# Altium schematic symbol library 1.SchLib: 51 symbols
Pins are listed as number, name and electrical type; pins without a type are passive.

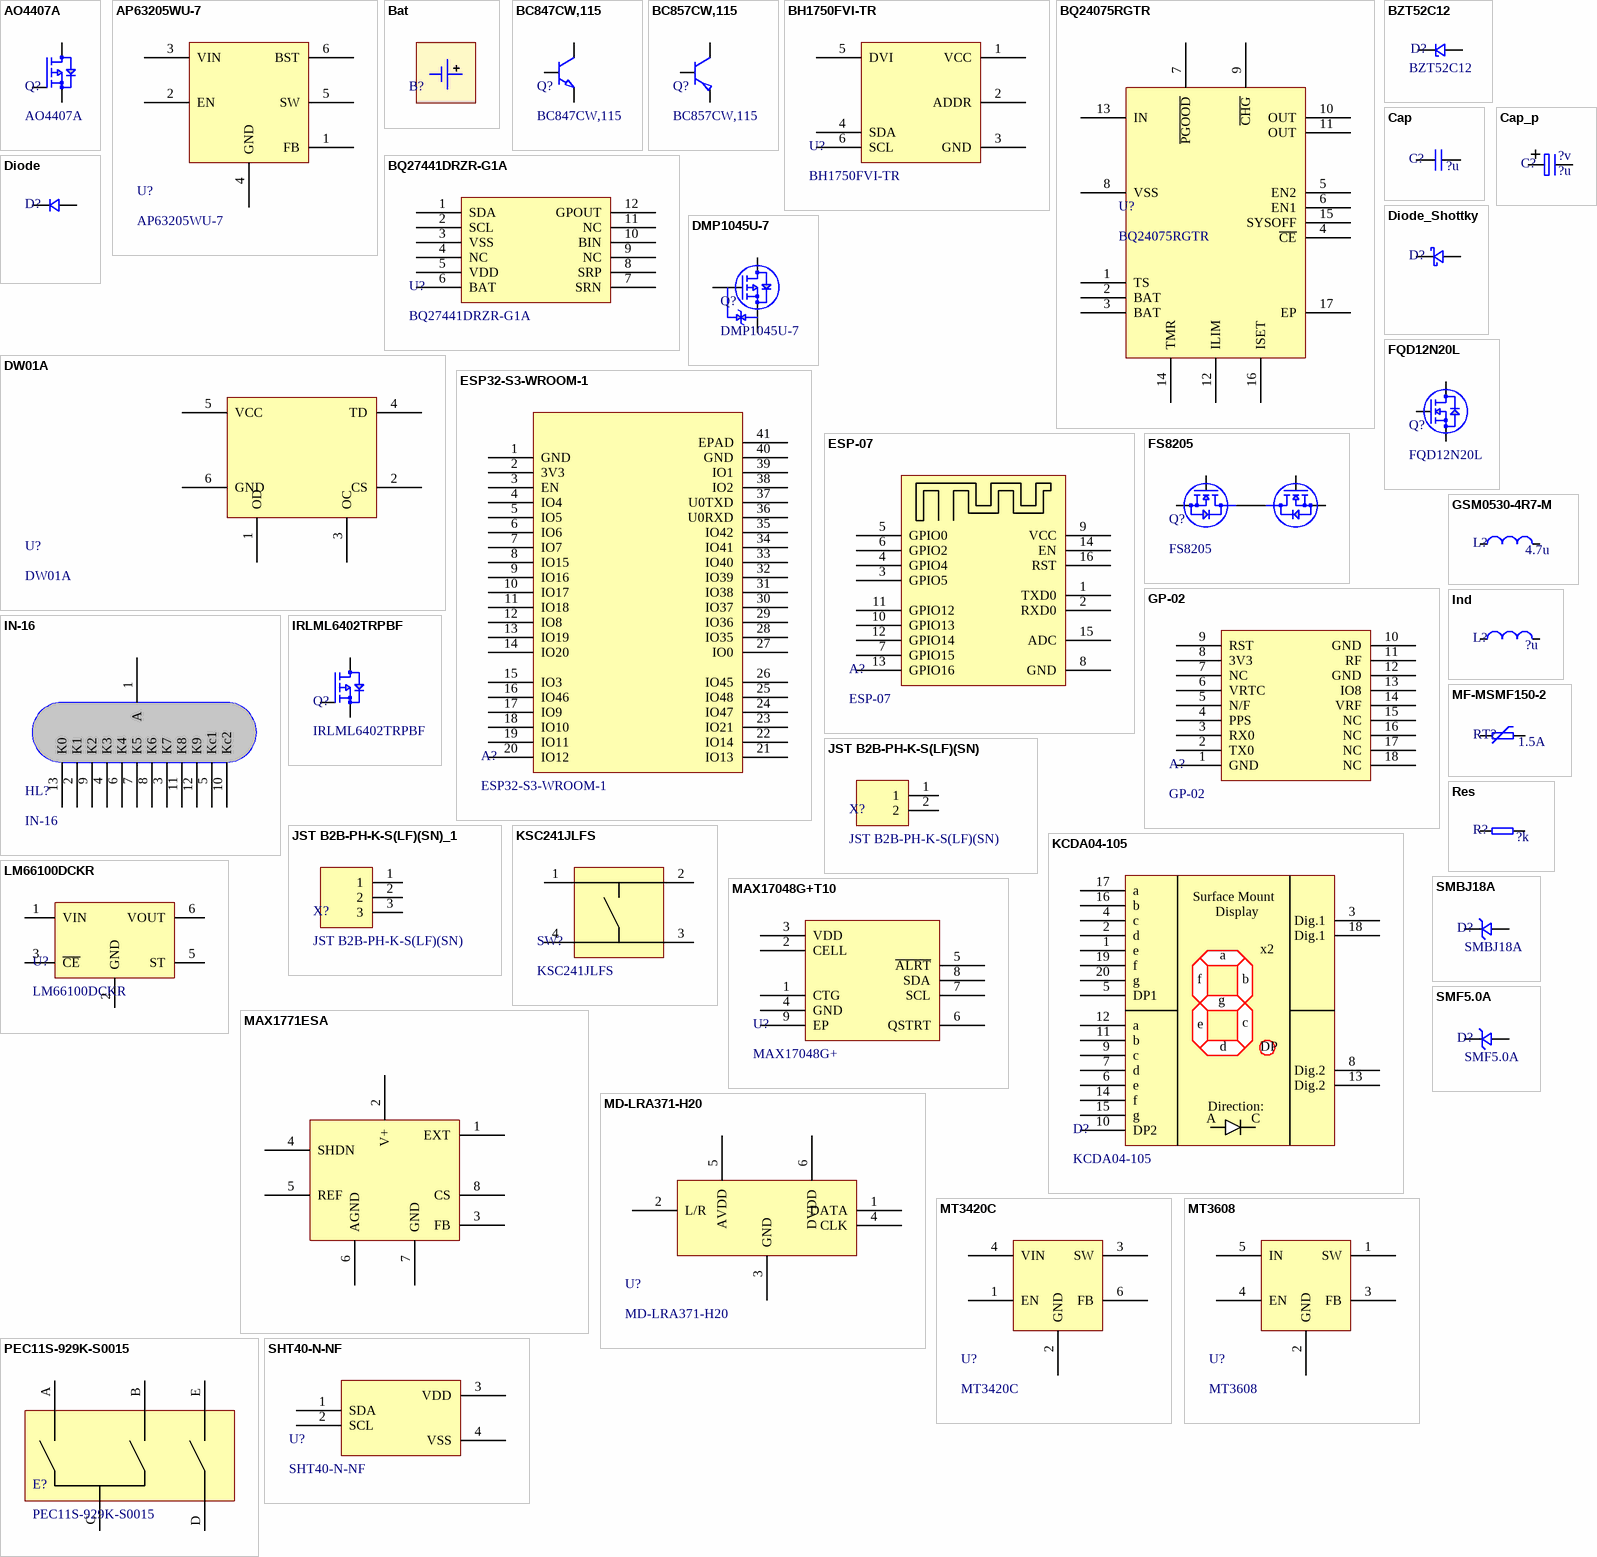
[diagram p0: symbols AO4407A to SMF5.0A]

## AO4407A
designator Q?
MOSFET P-CH 30V 14A SOP-8; Manufacturer: UWM; P/N: AO4407A; Datasheet: https://www.lcsc.com/datasheet/C2841482.pdf?spm=wm.sxq.inf.ggs___wm.fly.bg.1.xh&lcsc_vid=EQRaUgBURlNYUgcERQILVVIEQ1gIVldeRllcAwAFQQMxVlNeR1NcU1xSQlJfVzsOAxUeFF5JWBYZEEoKFBINSQcJGk4eFQsCAgIaSgADAwAHC0slRldeUFZIHxUDCw%3D%3D; Package: SOP-8
footprint UMW AO4407A (MOSFET P-CH 30V 14A SOP-8)
pins: D, G, S
1 alternate drawing of the same symbol

## AP63205WU-7
designator U?
3.8V to 32V Input, 2A Low Quiescent Current Synchronous Buck Converter with Enhanced EMI Suppression; Manufacturer: DIODES; Datasheet: https://www.lcsc.com/datasheet/C2071056.pdf?spm=wm.sxq.inf.ggs___wm.fly.bg.0.xh&lcsc_vid=EQRaUgBURlNYUgcERQILVVIEQ1gIVldeRllcAwAFQQMxVlNeR1NfXlNVTlNXUDsOAxUeFF5JWBYZEEoKFBINSQcJGk4%3D; P/N: AP63205WU-7
footprint TAP63200/AP63201/AP63203/AP63205 SOT26 (3.8V to 32V Input, 2A Low Quiescent Current Synchronous Buck Converter with Enhanced EMI Suppression)
pins: 1 FB, 2 EN, 3 VIN, 4 GND, 5 SW, 6 BST

## Bat
designator B?  (mechanical)
BATTERY

## BC847CW,115
designator Q?
TRANS NPN 45V 0.1A SOT23; Manufacturer: Nexperia USA Inc.; P/N: BC847CW,115; Datasheet: https://assets.nexperia.com/documents/data-sheet/BC847_SER.pdf; Package: SOT23
footprint Nexperia BC857CW,115 Nexperia BC847CW,115SOT323 (SC-70) (SOT23, 3-Leads, Body 2,00x2,10mm, Pitch 0,65mm, IPC Medium Density)
pins: B, C, E
1 alternate drawing of the same symbol

## BC857CW,115
designator Q?
TRANS PNP 45V 100mA SOT-323; Manufacturer: Nexperia USA Inc.; P/N: BC857CW,115; Datasheet: https://www.lcsc.com/datasheet/C75570.pdf?spm=wm.sxq.inf.ggs___wm.fly.bg.0.xh&lcsc_vid=EQRaUgBURlNYUgcERQILVVIEQ1gIVldeRllcAwAFQQMxVlNeR1BZUFRfQlVcXjsOAxUeFF5JWBYZEEoKFBINSQcJGk4NBhADEA4cHktXRVZADxALGw%3D%3D; Package: SOT-323
footprint Nexperia BC857CW,115 Nexperia BC847CW,115SOT323 (SC-70) (SOT23, 3-Leads, Body 2,00x2,10mm, Pitch 0,65mm, IPC Medium Density)
pins: B, C, E
1 alternate drawing of the same symbol

## BH1750FVI-TR
designator U?
WSOF-6 Ambient Light Sensor IC; Manufacturer: ROHM; HelpURL: https://www.lcsc.com/datasheet/C78960.pdf?spm=wm.sxq.inf.ggs___wm.fly.bg.0.xh&lcsc_vid=FFBYBlcEFAQLVVJeQARWBFACRFUNUlFXRVlWBQJRRFkxVlNeR1RWUFZeRlheVTsOAxUeFF5JWBYZEEoKFBINSQcJGk4NBhADEA4cHktXQ1VaSQwSGg0%3D; P/N: BH1750FVI-TR
footprint BH1750FVI-TR (Ambient Light Sensor IC)
pins: 1 VCC, 2 ADDR, 3 GND, 4 SDA, 5 DVI, 6 SCL

## BQ24075RGTR
designator U?
1.5A USB-FRIENDLY Li-lon BATTERY CHARGER AND POWER-PATH MANAGEMENT IC; Manufacturer: TI; HelpURL: https://www.lcsc.com/datasheet/C15464.pdf?spm=wm.sxq.inf.ggs___wm.fly.bg.0.xh&lcsc_vid=EQRaUgBURlNYUgcERQILVVIEQ1gIVldeRllcAwAFQQMxVlNeR1NcXlVXRlNaUzsOAxUeFF5JWBYZEEoKFBINSQcJGk4eFQsCAgIaSgADAwAHC0slQlFdUl1QWQkaCgg%3D; P/N: BQ24075RGTR
footprint BQ24072 BQ24073 BQ24074 BQ24075 BQ24079 (QFN-16-EP(3x3) 1.5A USB-FRIENDLY Li-lon BATTERY CHARGER AND POWER-PATH MANAGEMENT IC)
pins: 1 TS, 2 BAT, 3 BAT, 4 ~{CE}, 5 EN2, 6 EN1, 7 ~{PGOOD}, 8 VSS, 9 ~{CHG}, 10 OUT, 11 OUT, 12 ILIM, 13 IN, 14 TMR, 15 SYSOFF, 16 ISET, 17 EP

## BQ27441DRZR-G1A
designator U?
IC BATT FUEL GAUGE LI-ION 12SON; Manufacturer: Texas Instruments; Datasheet: http://www.ti.com/lit/ds/symlink/bq27441-g1.pdf; P/N: BQ27441DRZR-G1A
pins: 1 SDA, 2 SCL, 3 VSS, 4 NC, 5 VDD, 6 BAT, 7 SRN, 8 SRP, 9 NC, 10 BIN, 11 NC, 12 GPOUT

## BZT52C12
designator D?
DIODE ZENER 12V 500mW SOD-123; Manufacturer: GOODWORK; HelpURL: https://www.lcsc.com/datasheet/C2932744.pdf?spm=wm.sxq.inf.ggs___wm.fly.bg.1.xh&lcsc_vid=EQRaUgBURlNYUgcERQILVVIEQ1gIVldeRllcAwAFQQMxVlNeR1NcUVVQTlheVDsOAxUeFF5JWBYZEEoKFBINSQcJGk4eFQsCAgIaSgADAwAHC0slRVlaVlBeRU8GEwkK; P/N: BZT52C12
footprint BZT52C12 (DIODE ZENER 12V 500mW SOD-123)
pins: 1, 2

## Cap
designator C?, comment ?u
CAPACITOR; Value: ?u
footprint C0402 (Chip Capacitor, 2-Leads, Body 1,00x0,50mm, IPC Medium Density)
footprint C0603 (Chip Capacitor, 2-Leads, Body 1,60x0,80mm, IPC Medium Density)
footprint C0805 (Chip Capacitor, 2-Leads, Body 2,00x1,25mm, IPC Medium Density)
footprint C1206 (Chip Capacitor, 2-Leads, Body 3,20x1,60mm, IPC Medium Density)
footprint C1210 (Chip Capacitor, 2-Leads, Body 3,20x2,50mm, IPC Medium Density)
footprint C1812 (Chip Capacitor, 2-Leads, Body 4,50x3,20mm, IPC Medium Density)
footprint C1825 (Chip Capacitor, 2-Leads, Body 4,50x6,40mm, IPC Medium Density)
footprint C2220 (Chip Capacitor, 2-Leads, Body 5,60x5,00mm, IPC Medium Density)
footprint C2225 (Chip Capacitor, 2-Leads, Body 5,60x6,30mm, IPC Medium Density)
pins: 1, 2

## Cap_p
designator C?, comment Voltage: ?v  (hidden comment: ?u)
CAPACITOR; Value: ?u
footprint CAPM3216X18N_TANTAL_E
footprint CAP_8X10.2 (Aluminum Electrolytic Capacitor, Body 8,25x8,30x10,70mm, IPC Medium Density)
pins: 1, 2

## Diode
designator D?
Diode
footprint CAPM3216X18N_TANTAL_E
pins: 1, 2

## Diode_Shottky
designator D?
Diode Shottky
footprint DIOM6959X26N-SS54 (Molded Diode, 2-Leads, Body 6,86x5,91mm, IPC Medium Density)
pins: 1, 2

## DMP1045U-7
designator Q?
P-CHANNEL ENHANCEMENT MODE MOSFET; Manufacturer: Diodes Incorporated; P/N: DMP1045U-7; Datasheet: https://www.diodes.com/assets/Datasheets/DMP1045U.pdf
footprint SOT23127P600-8N
pins: D, G, S
1 alternate drawing of the same symbol

## DW01A
designator U?
2A 2.3-6V Input 1.5MHz Synchronous Step-Down Converter; Manufacturer: HMsemi; HelpURL: https://hmsemi.com/downfile/DW01A.PDF; P/N: DW01A
footprint SOT23-6-MT3420C (SOT23, 6-Leads, Body 2,90x2,80mm, Pitch 0,95mm, IPC Medium Density)
pins: 1 OD, 2 CS, 3 OC, 4 TD, 5 VCC, 6 GND

## ESP32-S3-WROOM-1
designator A?
2.4 GHz Wi-Fi (802.11 b/g/n) and Bluetooth® 5 (LE) module; Manufacturer: espressif; Datasheet: https://www.espressif.com/sites/default/files/documentation/esp32-s3-wroom-1_wroom-1u_datasheet_en.pdf; P/N: ESP32-S3-WROOM-1
footprint ESP32-S3-WROOM-1
pins: 1 GND, 2 3V3, 3 EN, 4 IO4, 5 IO5, 6 IO6, 7 IO7, 8 IO15, 9 IO16, 10 IO17, 11 IO18, 12 IO8, 13 IO19, 14 IO20, 15 IO3, 16 IO46, 17 IO9, 18 IO10, 19 IO11, 20 IO12, 21 IO13, 22 IO14, 23 IO21, 24 IO47, 25 IO48, 26 IO45, 27 IO0, 28 IO35, 29 IO36, 30 IO37, 31 IO38, 32 IO39, 33 IO40, 34 IO41, 35 IO42, 36 U0RXD, 37 U0TXD, 38 IO2, 39 IO1, 40 GND, 41 EPAD
1 alternate drawing of the same symbol

## ESP-07
designator A?
ESP8266 WIFI 802.11B/G/N 160MBIT; Manufacturer: AI Thinker; Datasheet: https://wiki.ai-thinker.com/_media/esp8266/esp8266_series_modules_user_manual_v1.1.pdf; P/N: ESP-07
pins: 1 TXD0, 2 RXD0, 3 GPIO5, 4 GPIO4, 5 GPIO0, 6 GPIO2, 7 GPIO15, 8 GND, 9 VCC, 10 GPIO13, 11 GPIO12, 12 GPIO14, 13 GPIO16, 14 EN, 15 ADC, 16 RST
1 alternate drawing of the same symbol

## FQD12N20L
designator Q?
n-Channel QFET MOSFET 200V 9A 280mOhm; Manufacturer: Fairchild Semiconductor; P/N: FQD12N20L; Datasheet: https://www.onsemi.com/download/data-sheet/pdf/fqd12n20l-d.pdf; Package: D-PAK
footprint DPAK-fqd12n20l (D-PAK, 3-Pads, Body 6,20x6,72mm (max), IPC Medium Density)
pins: D, G, S
1 alternate drawing of the same symbol

## FS8205
designator Q?
Dual n-Channel Enhancement Mode power MOSFET; Manufacturer: Fortune; P/N: FS8205; Datasheet: https://datasheet.lcsc.com/lcsc/1810110910_Fortune-Semicon-FS8205_C32254.pdf
footprint SOT23-6-MT3420C (SOT23, 6-Leads, Body 2,90x2,80mm, Pitch 0,95mm, IPC Medium Density)
pins: 1 S1, 2 D12, 3 S2, 4 G2, 5 D12, 6 G1
1 alternate drawing of the same symbol

## GP-02
designator A?
high-performance BDS/GNSS multi-mode satellite navigation receiver SOCmodule; Manufacturer: Ai Thinker; HelpURL: https://aithinker-static.oss-cn-shenzhen.aliyuncs.com/docs/_media_old/gp-02_specification.pdf; P/N: GP-02
footprint GP-02
pins: 1 GND, 2 TX0, 3 RX0, 4 PPS, 5 N/F, 6 VRTC, 7 NC, 8 3V3, 9 RST, 10 GND, 11 RF, 12 GND, 13 IO8, 14 VRF, 15 NC, 16 NC, 17 NC, 18 NC
1 alternate drawing of the same symbol

## GSM0530-4R7-M
designator L?, comment 4.7u
FIXED IND 4.7uH 4.5A 54mΩ SMD,5.7x5.2mm; P/N: GSM0530-4R7-M; HelpURL: https://www.lcsc.com/datasheet/C51933829.pdf?spm=wm.sxq.inf.ggs___wm.fly.bg.3.xh&lcsc_vid=EQRaUgBURlNYUgcERQILVVIEQ1gIVldeRllcAwAFQQMxVlNeR1NcVlZRQlBWXjsOAxUeFF5JWBYZEEoKFBINSQcJGk4eFQsCAgIaSgADAwAHC0slQlJaXlNWQk8GEwkK; Value: 4.7u
footprint GSM0530-xxx-M Inductor (SMD,5.7x5.2mm Inductor)
pins: 1, 2

## IN-16
designator HL?
P/N: IN-16
footprint IN-16
pins: 1 A, 2 K1, 3 K7, 4 K3, 5 Kc1, 6 K4, 7 K5, 8 K6, 9 K2, 10 Kc2, 11 K8, 12 K9, 13 K0

## Ind
designator L?, comment ?u
INDUCTOR; Value: ?u
footprint CD127-IND (Precision Wire Wound Inductor, 2-Leads, Body 12,00x12,00mm, IPC Medium Density)
footprint C0805 (Chip Capacitor, 2-Leads, Body 2,00x1,25mm, IPC Medium Density)
footprint CDRH5D16
pins: 1, 2

## IRLML6402TRPBF
designator Q?
MOSFET P-CH 20V 3.7A SOT-23; Manufacturer: Infineon; P/N: IRLML6402TRPBF; Package: SOT-23
footprint IRLML6402TRPBF (MOSFET P-CH 20V 3.7A SOT-23)
pins: 1, 2, 3
1 alternate drawing of the same symbol

## JST B2B-PH-K-S(LF)(SN)
designator X?
CONN HEADER TH 2POS 2mm; HelpURL: https://www.lcsc.com/datasheet/C131337.pdf?spm=wm.sxq.inf.ggs___wm.fly.bg.0.stp&lcsc_vid=FFBYBlcEFAQLVVJeQARWBFACRFUNUlFXRVlWBQJRRFkxVlNeR1NaVVVSQlRaUzsOAxUeFF5JWBYZEEoKFBINSQcJGk4dAgUUFAk%3D; Manufacturer: JST; P/N: JST B2B-PH-K-S(LF)(SN)
footprint B2B -PH-K-S (CONN HEADER TH 2POS 2mm)
pins: 1, 2

## JST B2B-PH-K-S(LF)(SN)_1
designator X?, comment JST B2B-PH-K-S(LF)(SN)
CONN HEADER TH 3POS 2mm; HelpURL: https://www.lcsc.com/datasheet/C131339.pdf?spm=wm.sxq.inf.ggs___wm.fly.bg.0.xh&lcsc_vid=FFBYBlcEFAQLVVJeQARWBFACRFUNUlFXRVlWBQJRRFkxVlNeR1NaVFdQQFldXzsOAxUeFF5JWBYZEEoKFBINSQcJGk4eFQsCAgIaSgADAwAHC0slRlJfVFdRWQkaCgg%3D; Manufacturer: JST; P/N: JST B2B-PH-K-S(LF)(SN)
footprint B3B-PH-K-S(LF)(SN) (CONN HEADER TH 3POS 2mm)
pins: 1, 2, 3

## KCDA04-105
designator D?
Surface Mount Display; Manufacturer: Kingbright; P/N: KCDA04-105; Datasheet: https://www.kingbright.com/attachments/file/psearch/000/00/00/KCDA04-105(Ver.11A).pdf
pins: 1 e, 2 d, 3 Dig.1, 4 c, 5 DP1, 6 e, 7 d, 8 Dig.2, 9 c, 10 DP2, 11 b, 12 a, 13 Dig.2, 14 f, 15 g, 16 b, 17 a, 18 Dig.1, 19 f, 20 g
text: Surface Mount; Display; x2; DP; Direction:; A; C

## KSC241JLFS
designator SW?
SWITCH TACTILE SPST-NO 50mA @ 32VDC; Manufacturer: C&K; P/N: KSC241JLFS; Datasheet: https://www.ckswitches.com/media/1968/ksc2.pdf
footprint KSC241JLFS
pins: 1, 2, 3, 4

## LM66100DCKR
designator U?
Low IQ Ideal Diode With Input Polarity Protection; Manufacturer: TI; HelpURL: https://www.lcsc.com/datasheet/C2869734.pdf?spm=wm.sxq.inf.ggs___wm.fly.bg.0.xh&lcsc_vid=EQRaUgBURlNYUgcERQILVVIEQ1gIVldeRllcAwAFQQMxVlNeR1BZUlVeR1dfVzsOAxUeFF5JWBYZEEoKFBINSQcJGk4eFQsCAgIaSgADAwAHC0slT1hYU1xIHxUDCw%3D%3D; P/N: LM66100DCKR
footprint LM66100DCKR (Low IQ Ideal Diode With Input Polarity Protection)
pins: 1 VIN, 2 GND, 3 ~{CE}, 5 ST, 6 VOUT

## MAX1771ESA
designator U?
12V or Adjustable, High-Efficiency, / Low IQ, Step-Up DC-DC Controller; Manufacturer: Maxim; HelpURL: https://static.chipdip.ru/lib/300/DOC000300892.pdf; P/N: MAX1771ESA
footprint MAX1771ESA (SOIC, 8-Leads, Body 4,90x3,90mm, Pitch 1,27mm, IPC Medium Density)
pins: 1 EXT, 2 V+, 3 FB, 4 SHDN, 5 REF, 6 AGND, 7 GND, 8 CS

## MAX17048G+T10
designator U?, comment MAX17048G+
1-Cell/2-Cell Fuel Gauge with ModelGauge; Manufacturer: Maxim Integrated; P/N: MAX17048G+; Datasheet: https://static.chipdip.ru/lib/542/DOC011542521.pdf
footprint MAXIM MAX17048G+T10 (1-Cell/2-Cell Fuel Gauge with ModelGauge)
pins: 1 CTG, 2 CELL, 3 VDD, 4 GND, 5 ~{ALRT}, 6 QSTRT, 7 SCL, 8 SDA, 9 EP

## MD-LRA371-H20
designator U?
Omnidirectional -37dB 65dB SMD Microphones RoHS; Manufacturer: Gettop; HelpURL: https://www.lcsc.com/datasheet/C50275770.pdf?spm=wm.sxq.inf.ggs___wm.fly.bg.3.xh&lcsc_vid=FFBYBlcEFAQLVVJeQARWBFACRFUNUlFXRVlWBQJRRFkxVlNeR1RWXldUQ1RdUTsOAxUeFF5JWBYZEEoKFBINSQcJGk4eFQsCAgIaSgADAwAHC0slQldbUVJXR08GEwkK; P/N: MD-LRA371-H20
footprint MD-LRA371-H20 (Gettop SMD Omnidirectional -37dB 65dB Microphones RoHS)
pins: 1 DATA, 2 L/R, 3 GND, 4 CLK, 5 AVDD, 6 DVDD

## MF-MSMF150-2
designator RT?  value 1.5A  (hidden comment: MF-MSMF150-2)
PTC RESET FUSE 6V 1812; P/N: MF-MSMF150-2; ComponentLink1Description: HelpURL; ComponentLink1URL: https://www.lcsc.com/datasheet/C89648.pdf?spm=wm.sxq.inf.ggs___wm.fly.bg.0.xh&lcsc_vid=EQRaUgBURlNYUgcERQILVVIEQ1gIVldeRllcAwAFQQMxVlNeR1BZU1ReR1ldUTsOAxUeFF5JWBYZEEoKFBINSQcJGk4NBhADEA4cHktXR1BXSQwSGg0%3D
footprint MF-MSMF150 (PTC RESET FUSE 6V 1812)
pins: 1, 2

## MT3420C
designator U?
2A 2.3-6V Input 1.5MHz Synchronous Step-Down Converter; Manufacturer: Aerosemi; Datasheet: https://datasheet.lcsc.com/lcsc/1806041635_XI-AN-Aerosemi-Tech-MT3420C_C181741.pdf; P/N: MT3420C
footprint SOT23-6-MT3420C (SOT23, 6-Leads, Body 2,90x2,80mm, Pitch 0,95mm, IPC Medium Density)
pins: 1 EN, 2 GND, 3 SW, 4 VIN, 6 FB

## MT3608
designator U?
High Efficiency 1.2MHz 2A Step Up Converter; Manufacturer: Aerosemi; HelpURL: https://www.olimex.com/Products/Breadboarding/BB-PWR-3608/resources/MT3608.pdf; P/N: MT3608
footprint SOT23-6-MT3420C (SOT23, 6-Leads, Body 2,90x2,80mm, Pitch 0,95mm, IPC Medium Density)
pins: 1 SW, 2 GND, 3 FB, 4 EN, 5 IN

## PEC11S-929K-S0015
designator E?
ROTARY ENCODER MECHANICAL 15PPR; Manufacturer: Bourns; P/N: PEC11S-929K-S0015; Datasheet: https://www.bourns.com/docs/product-datasheets/pec11s.pdf?sfvrsn=601089f1_5; Supplier 1: Aliexpress; Supplier Part Number 1: https://ru.aliexpress.com/item/32982414097.html?spm=a2g0o.productlist.0.0.66c8dd40JI3Wx0&algo_pvid=9a118981-c070-4602-89dc-e0076a1d9175&algo_expid=9a118981-c070-4602-89dc-e0076a1d9175-0&btsid=fce86d33-42b5-41e8-9f27-e9f4b1b87b22&ws_ab_test=searchweb0_0,searchweb201602_7,searchweb201603_52
footprint PEC11S-929K-S0015
pins: A, B, C, D 1, E 2

## Res
designator R?, comment ?k
RESISTOR; Value: ?k
footprint R0402 (Resistor)
footprint R0603 (Chip Resistor)
footprint R0805 (Chip Resistor, 2-Leads, Body 2,10x1,30mm, IPC Medium Density)
footprint R1206 (Chip Resistor)
footprint R1210 (Chip Resistor)
footprint R2010 (Chip Resistor)
pins: 1, 2

## SHT40-N-NF
designator U?
DFN-4(1.5x1.5) Humidity, Moisture Sensors RoHS; Manufacturer: Nyfea; HelpURL: https://www.lcsc.com/datasheet/C54946589.pdf?spm=wm.sxq.inf.ggs___wm.fly.bg.0.xh&lcsc_vid=FFBYBlcEFAQLVVJeQARWBFACRFUNUlFXRVlWBQJRRFkxVlNeR1RWVVxXRlddVTsOAxUeFF5JWBYZEEoKFBINSQcJGk4dAgUUFAk%3D; P/N: SHT40-N-NF
footprint SHT40-N-NF (Nyfea DFN-4(1.5x1.5) Humidity, Moisture Sensors RoHS)
pins: 1 SDA, 2 SCL, 3 VDD, 4 VSS

## SMBJ18A
designator D?
TVS DIODE 18VWM 29.2VC SMB; Manufacturer: Jingdao Microelectronics; HelpURL: https://www.lcsc.com/datasheet/C353379.pdf?spm=wm.sxq.inf.ggs___wm.fly.bg.1.xh&lcsc_vid=EQRaUgBURlNYUgcERQILVVIEQ1gIVldeRllcAwAFQQMxVlNeR1NcUFFVQVVWVDsOAxUeFF5JWBYZEEoKFBINSQcJGk4dAgUUFAk%3D; P/N: SMBJ18A
footprint SMBJ18A (SMBJ Series Plastic surface mounted package; 2 leads)
pins: 1, 2

## SMF5.0A
designator D?
TVS DIODE 5VWM 9.2VC SOD-123FL; Manufacturer: Littelfuse; HelpURL: https://www.lcsc.com/datasheet/C151296.pdf?spm=wm.sxq.inf.ggs___wm.fly.bg.0.xh&lcsc_vid=EQRaUgBURlNYUgcERQILVVIEQ1gIVldeRllcAwAFQQMxVlNeR1BZVV1RTlhdVDsOAxUeFF5JWBYZEEoKFBINSQcJGk4NBhADEA4cHkteQ1NADxALGw%3D%3D; P/N: SMF5.0A
footprint SSMF5.0A OD-123FL (SODFL, 2-Leads, Body 1,75x3,65mm, IPC Medium Density)
pins: 1, 2

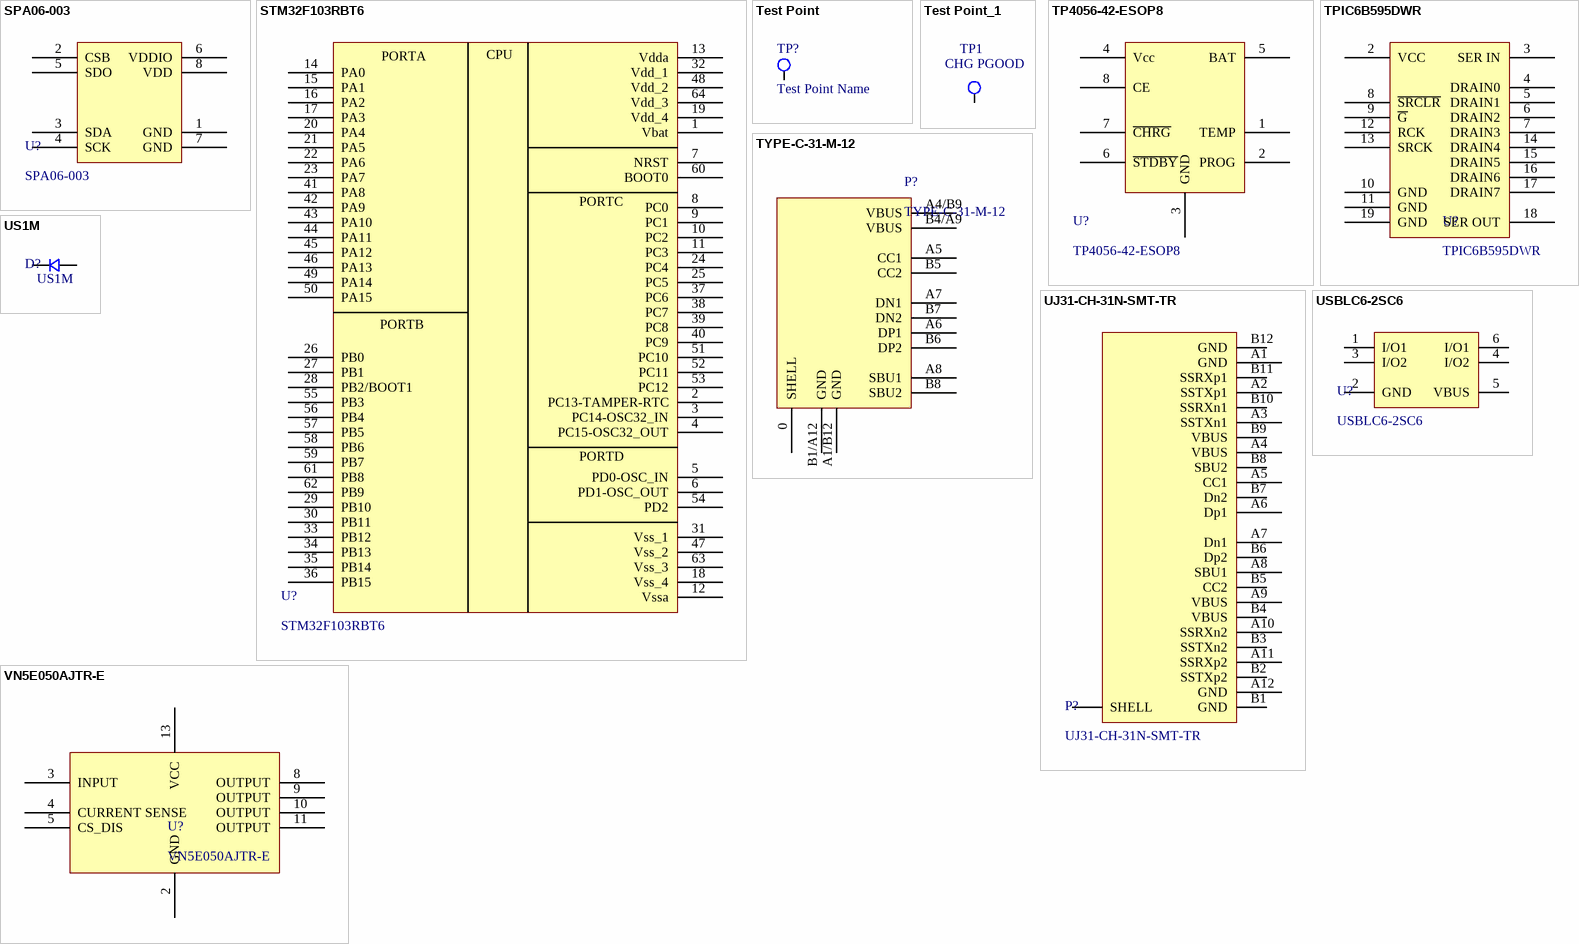
[diagram p1: symbols SPA06-003 to VN5E050AJTR-E]

## SPA06-003
designator U?
LGA-8(2x2.5) Digital pressure sensor; Manufacturer: Goertek; HelpURL: https://www.lcsc.com/datasheet/C30589048.pdf?spm=wm.sxq.inf.ggs&lcsc_vid=EQRaUgBURlNYUgcERQILVVIEQ1gIVldeRllcAwAFQQMxVlNeR1RWU1JeQFRdUjsOAxUeFF5JWBYZEEoBGA4JCwFIFA4DSA%3D%3D; P/N: SPA06-003
footprint SPA06-003 (LGA-8(2x2.5) Digital pressure sensor)
pins: 1 GND, 2 CSB, 3 SDA, 4 SCK, 5 SDO, 6 VDDIO, 7 GND, 8 VDD

## STM32F103RBT6
designator U?
IC MCU 32BIT 128KB FLASH 64LQFP; Manufacturer: STMicroelectronics; Datasheet: https://www.st.com/resource/en/datasheet/cd00161566.pdf; P/N: STM32F103RBT6
pins: 1 Vbat, 2 PC13-TAMPER-RTC, 3 PC14-OSC32_IN, 4 PC15-OSC32_OUT, 5 PD0-OSC_IN, 6 PD1-OSC_OUT, 7 NRST, 8 PC0, 9 PC1, 10 PC2, 11 PC3, 12 Vssa, 13 Vdda, 14 PA0, 15 PA1, 16 PA2, 17 PA3, 18 Vss_4, 19 Vdd_4, 20 PA4, 21 PA5, 22 PA6, 23 PA7, 24 PC4, 25 PC5, 26 PB0, 27 PB1, 28 PB2/BOOT1, 29 PB10, 30 PB11, 31 Vss_1, 32 Vdd_1, 33 PB12, 34 PB13, 35 PB14, 36 PB15, 37 PC6, 38 PC7, 39 PC8, 40 PC9, 41 PA8, 42 PA9, 43 PA10, 44 PA11, 45 PA12, 46 PA13, 47 Vss_2, 48 Vdd_2, 49 PA14, 50 PA15, 51 PC10, 52 PC11, 53 PC12, 54 PD2, 55 PB3, 56 PB4, 57 PB5, 58 PB6, 59 PB7, 60 BOOT0, 61 PB8, 62 PB9, 63 Vss_3, 64 Vdd_3
text: PORTA; CPU; PORTC; PORTB; PORTD

## Test Point
designator TP?  (no BOM)
Test point; Test Point Name: Test Point Name
footprint Test Point 1.6 mm (NO BOM Test point 1.6mm)
pins: 1, 1

## Test Point_1
designator TP1, comment Test Point Name: CHG PGOOD  (hidden comment: Test Point)  (no BOM)
footprint Test Point 1.6 mm (NO BOM Test point 1.6mm)
pins: 1, 1

## TP4056-42-ESOP8
designator U?
1A Standalone Linear Li-lon Battery Charger with Thermal / Regulation in SOP-8; Manufacturer: TopPower; P/N: TP4056-42-ESOP8; Datasheet: https://datasheet.lcsc.com/lcsc/1809261820_TOPPOWER-Nanjing-Extension-Microelectronics-TP4056-42-ESOP8_C16581.pdf; Datasheet_EN: https://dlnmh9ip6v2uc.cloudfront.net/datasheets/Prototyping/TP4056.pdf
footprint TP4056-SOIC8-TP
pins: 1 TEMP, 2 PROG, 3 GND, 4 Vcc, 5 BAT, 6 ~{STDBY}, 7 ~{CHRG}, 8 CE

## TPIC6B595DWR
designator U?
Power Logic 8-Bit Shift Register; Manufacturer: Texas Instruments; Datasheet: https://static.chipdip.ru/lib/542/DOC012542376.pdf; P/N: TPIC6B595DWR
footprint SOP127P1030X265-20N (SOP, 20-Leads, Body 12,80x7,50mm, Pitch 1,27mm, IPC Medium Density)
pins: 2 VCC, 3 SER IN, 4 DRAIN0, 5 DRAIN1, 6 DRAIN2, 7 DRAIN3, 8 ~{SRCLR}, 9 ~{G}, 10 GND, 11 GND, 12 RCK, 13 SRCK, 14 DRAIN4, 15 DRAIN5, 16 DRAIN6, 17 DRAIN7, 18 SER OUT, 19 GND
1 alternate drawing of the same symbol

## TYPE-C-31-M-12
designator P?
CONN RCPT Type-C 16POS SMD; P/N: TYPE-C-31-M-12; HelpURL: https://www.lcsc.com/datasheet/C165948.pdf?spm=wm.sxq.inf.ggs___wm.fly.bg.0.xh&lcsc_vid=EQRaUgBURlNYUgcERQILVVIEQ1gIVldeRllcAwAFQQMxVlNeR1BYXlVUQlFaVjsOAxUeFF5JWBYZEEoKFBINSQcJGk4eFQsCAgIaSgADAwAHC0slRVNaUVNWTlZADxALGw%3D%3D
footprint TYPE-C-31-M-12 (CONN RCPT Type-C 16POS SMD)
pins: 0 SHELL, A1/B12 GND, A4/B9 VBUS, A5 CC1, A6 DP1, A7 DN1, A8 SBU1, B1/A12 GND, B4/A9 VBUS, B5 CC2, B6 DP2, B7 DN2, B8 SBU2

## UJ31-CH-31N-SMT-TR
designator P?
CONN RCPT USB3.1 TYPEC 24POS R/A; Manufacturer: CUI Devices; Datasheet: https://www.cuidevices.com/product/resource/uj31-ch-smt.pdf; P/N: UJ31-CH-31N-SMT-TR
footprint UJ31-CH-31N-SMT-TR
pins: 0 SHELL, A1 GND, A2 SSTXp1, A3 SSTXn1, A4 VBUS, A5 CC1, A6 Dp1, A7 Dn1, A8 SBU1, A9 VBUS, A10 SSRXn2, A11 SSRXp2, A12 GND, B1 GND, B2 SSTXp2, B3 SSTXn2, B4 VBUS, B5 CC2, B6 Dp2, B7 Dn2, B8 SBU2, B9 VBUS, B10 SSRXn1, B11 SSRXp1, B12 GND

## US1M
designator D?  P/N: US1M
1.0A SURFACE MOUNT ULTRA-FAST RECTIFIER; Manufacturer: Vishay; Datasheet: https://www.vishay.com/docs/88768/us1_test_dcicons.pdf
footprint DO-214AC(SMA)
pins: 1, 2

## USBLC6-2SC6
designator U?
TVS DIODE 5.25V 17V SOT23-6; Manufacturer: STMicroelectronics; HelpURL: https://www.st.com/content/ccc/resource/technical/document/datasheet/06/1d/48/9c/6c/20/4a/b2/CD00050750.pdf/files/CD00050750.pdf/jcr:content/translations/en.CD00050750.pdf; P/N: USBLC6-2SC6
footprint SOT23-6L-USBLC6-2SC6 (SOT23, 6-Leads, Body 2,93x2,80mm, Pitch 0,95mm, IPC Medium Density)
pins: 1 I/O1, 2 GND, 3 I/O2, 4 I/O2, 5 VBUS, 6 I/O1

## VN5E050AJTR-E
designator U?
Single channel high side driver with analog current sense for automotive applications; Manufacturer: ST; HelpURL: https://www.lcsc.com/datasheet/C443990.pdf?spm=wm.sxq.inf.ggs___wm.fly.bg.1.xh&lcsc_vid=FFBYBlcEFAQLVVJeQARWBFACRFUNUlFXRVlWBQJRRFkxVlNeR1NbVlNTTlVfVzsOAxUeFF5JWBYZEEoKFBINSQcJGk4NBhADEA4cHktXR1BXSQwSGg0%3D; P/N: VN5E050AJTR-E
footprint VN5E050AJTR-E (Single channel high side driver with analog current sense for automotive applications)
pins: 2 GND, 3 INPUT, 4 CURRENT SENSE, 5 CS_DIS, 8 OUTPUT, 9 OUTPUT, 10 OUTPUT, 11 OUTPUT, 13 VCC